# Altium footprint library BLDC-2020.PcbLib: 55 footprints (part 4 of 4)
Each footprint in its own frame and in the unit in brackets; x right, y up, seen from the top. Pads: shape width x height; smd on the part's side, far side on the other; paste and mask are expansions set on the pad; w line width, h text height; cw(c..) or ccw(c..) is an arc to the next point about the centre after c.
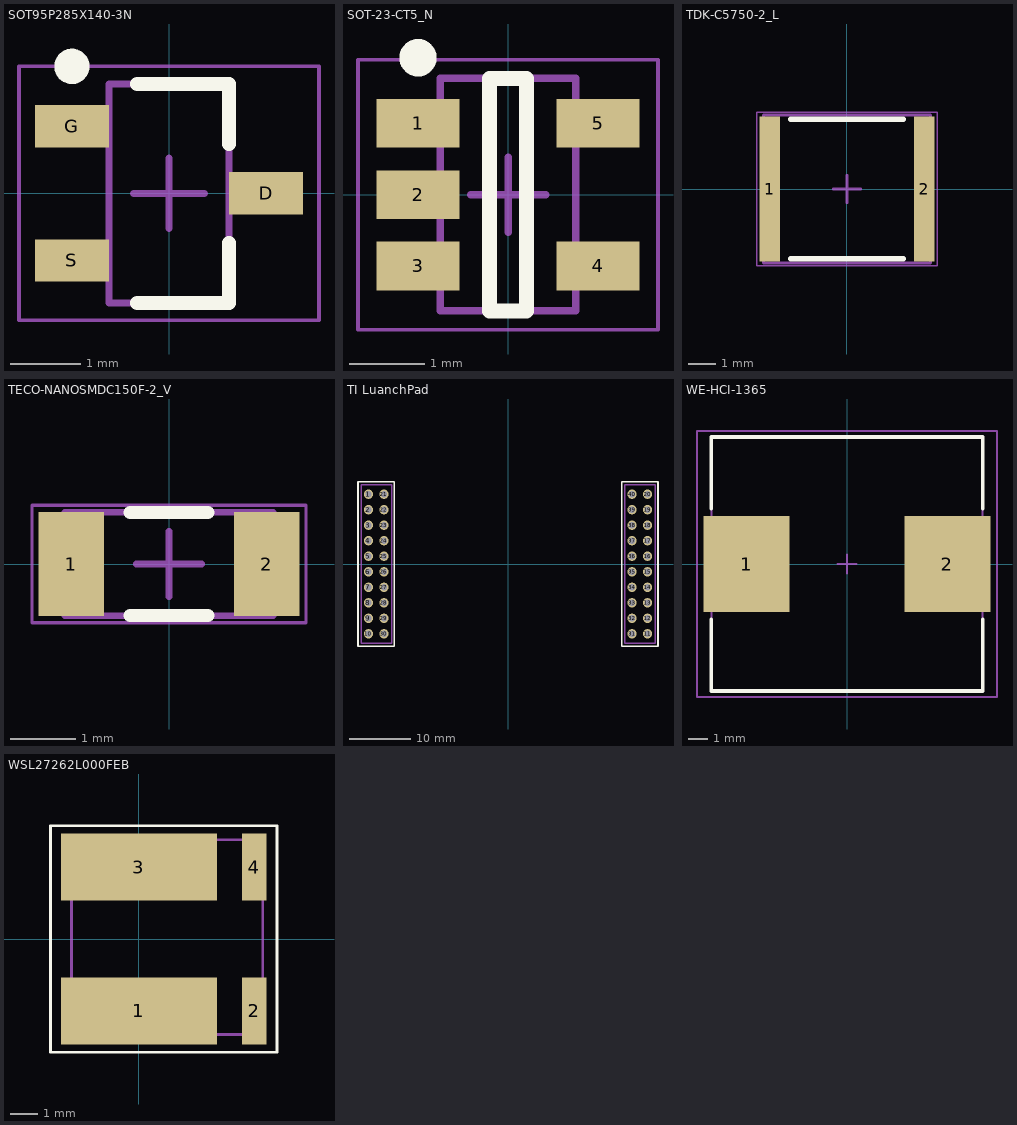
[diagram p3: the footprints below, top view; thin cyan lines are the x and y axes]

## SOT95P285X140-3N [mm]
pads (3):
  rect 1.05x0.6 smd: D(1.375,0) G(-1.375,0.95) S(-1.375,-0.95)
Top Overlay:
  circle w0.25: c-1.375,1.8 r0.125
  lines w0.2: -0.45,-1.55 0.85,-1.55 0.85,-0.7 ; -0.45,1.55 0.85,1.55 0.85,0.7
Mechanical 13:
  lines w0.1: -0.85,-1.55 -0.85,1.55 0.85,1.55 0.85,-1.55 -0.85,-1.55
Mechanical 15:
  lines w0.05: -2.125,-1.8 -2.125,1.8 2.125,1.8 2.125,-1.8 -2.125,-1.8
  lines w0.1: -0.5,0 0.5,0 ; 0,-0.5 0,0.5
3D body: height 1.4, standoff 0.01, extent -0.85,-1.55 0.85,1.55

## SOT-23-CT5_N [mm]
pads (5):
  rect 1.1x0.65 smd: 1(-1.2,0.95) 2(-1.2,0) 3(-1.2,-0.95) 4(1.2,-0.95) 5(1.2,0.95)
Top Overlay:
  circle w0.25: c-1.2,1.825 r0.125
  lines w0.2: -0.25,-1.55 -0.25,1.55 0.25,1.55 0.25,-1.55 -0.25,-1.55
Mechanical 13:
  lines w0.1: -0.9,-1.55 0.9,-1.55 0.9,1.55 -0.9,1.55 -0.9,-1.55
Mechanical 15:
  lines w0.05: -2,-1.8 2,-1.8 2,1.8 -2,1.8 -2,-1.8
  lines w0.1: -0.5,0 0.5,0 ; 0,-0.5 0,0.5
3D body: height 1.45, standoff 0, extent -0.9,-1.55 0.9,1.55

## TDK-C5750-2_L [mm]
pads (2):
  rect 0.75x5.3 smd: 1(-2.825,0) 2(2.825,0)
Top Overlay:
  lines w0.2: -2.05,-2.55 2.05,-2.55 ; -2.05,2.55 2.05,2.55
Mechanical 13:
  lines w0.1: -3.05,-2.7 3.05,-2.7 3.05,2.7 -3.05,2.7 -3.05,-2.7
Mechanical 15:
  lines w0.05: -3.3,-2.8 3.3,-2.8 3.3,2.8 -3.3,2.8 -3.3,-2.8
  lines w0.1: -0.5,0 0.5,0 ; 0,-0.5 0,0.5
3D body: height 2.5, standoff 0, extent 2.85,-2.7 3.05,2.7
3D body: height 2.5, standoff 0, extent -3.05,-2.7 -2.85,2.7
3D body: height 2.5, standoff 0, extent -2.85,-2.7 2.85,2.7

## TECO-NANOSMDC150F-2_V [mm]
pads (2):
  rect 1x1.6 smd: 1(-1.5,0) 2(1.5,0)
Top Overlay:
  lines w0.2: -0.6,-0.792 0.6,-0.792 ; -0.6,0.792 0.6,0.792
Mechanical 13:
  lines w0.1: -1.6,-0.792 -1.6,0.792 1.6,0.792 1.6,-0.792 -1.6,-0.792
Mechanical 15:
  lines w0.05: -2.1,-0.9 -2.1,0.9 2.1,0.9 2.1,-0.9 -2.1,-0.9
  lines w0.1: -0.5,0 0.5,0 ; 0,-0.5 0,0.5
3D body: height 0.89, standoff 0, extent -1.599,-0.792 1.599,0.792

## TI LuanchPad [mil]
pads (40):
  round 60 hole 40 mask+3: 1(-900,450) 2(-900,350) 3(-900,250) 4(-900,150) 5(-900,50) 6(-900,-50) 7(-900,-150) 8(-900,-250) 9(-900,-350) 10(-900,-450) 11(900,-450) 12(900,-350) 13(900,-250) 14(900,-150) 15(900,-50) 16(900,50) 17(900,150) 18(900,250) 19(900,350) 20(900,450) 21(-800,450) 22(-800,350) 23(-800,250) 24(-800,150) 25(-800,50) 26(-800,-50) 27(-800,-150) 28(-800,-250) 29(-800,-350) 30(-800,-450) 31(800,-450) 32(800,-350) 33(800,-250) 34(800,-150) 35(800,-50) 36(800,50) 37(800,150) 38(800,250) 39(800,350) 40(800,450)
Top Overlay:
  lines w10: -967.5,-530 -732.5,-530 -732.5,530 -967.5,530 -967.5,-530 ; 732.5,-530 967.5,-530 967.5,530 732.5,530 732.5,-530
Mechanical 1:
  lines w10: -947.5,-510 -750,-510 -750,510 -947.5,510 -947.5,-510 ; 752.5,-510 950,-510 950,510 752.5,510 752.5,-510
  text "J1" at 855.79,-7.57 h30
  text "J1" at -844.21,-7.57 h30
3D body "SSW-110-23-F-D.stp": height 335, standoff -394, extent 748.99,-509.99 943.99,510.01
3D body "SSW-110-23-F-D.stp": height 335, standoff -394, extent -951.01,-509.99 -756.01,510.01

## WE-HCI-1365 [mm]
pads (2):
  rect 4.5x5 smd: 1(-5.25,0) 2(5.25,0)
Top Overlay:
  lines w0.2: -7.1,-2.9 -7.1,-6.65 7.1,-6.65 7.1,-2.9 ; -7.1,2.9 -7.1,6.65 7.1,6.65 7.1,2.9
Mechanical 13:
  lines w0.1: -7.1,-6.65 7.1,-6.65 7.1,6.65 -7.1,6.65 -7.1,-6.65
Mechanical 15:
  lines w0.1: -0.5,0 0.5,0 ; 0,-0.5 0,0.5 ; -7.85,-6.95 7.85,-6.95 7.85,6.95 -7.85,6.95 -7.85,-6.95
3D body "744355122.stp": height 6.49, standoff -0.01, extent -7.1,-6.4 7.1,6.4

## WSL27262L000FEB [mm]
pads (4):
  rect 5.6x2.4 smd: 1(0,-2.58) 3(0,2.58)
  rect 0.89x2.4 smd: 2(4.135,-2.58) 4(4.135,2.58)
Top Overlay:
  lines w0.1: -3.175,-4.064 4.953,-4.064 4.953,4.064 -3.175,4.064 -3.175,-4.064
Mechanical 13:
  lines w0.1: -2.413,-3.429 4.445,-3.429 4.445,3.556 -2.159,3.556 -2.413,3.556 -2.413,-3.429
  text "'.Designator'String" at -1.778,0.127 h0.8
3D body "WSL2726 (0.0013).step": height 2.68, standoff 0, extent -2.15,-3.45 4.45,3.45